# EAGLE library part ATMEGA64 (library maruchan)
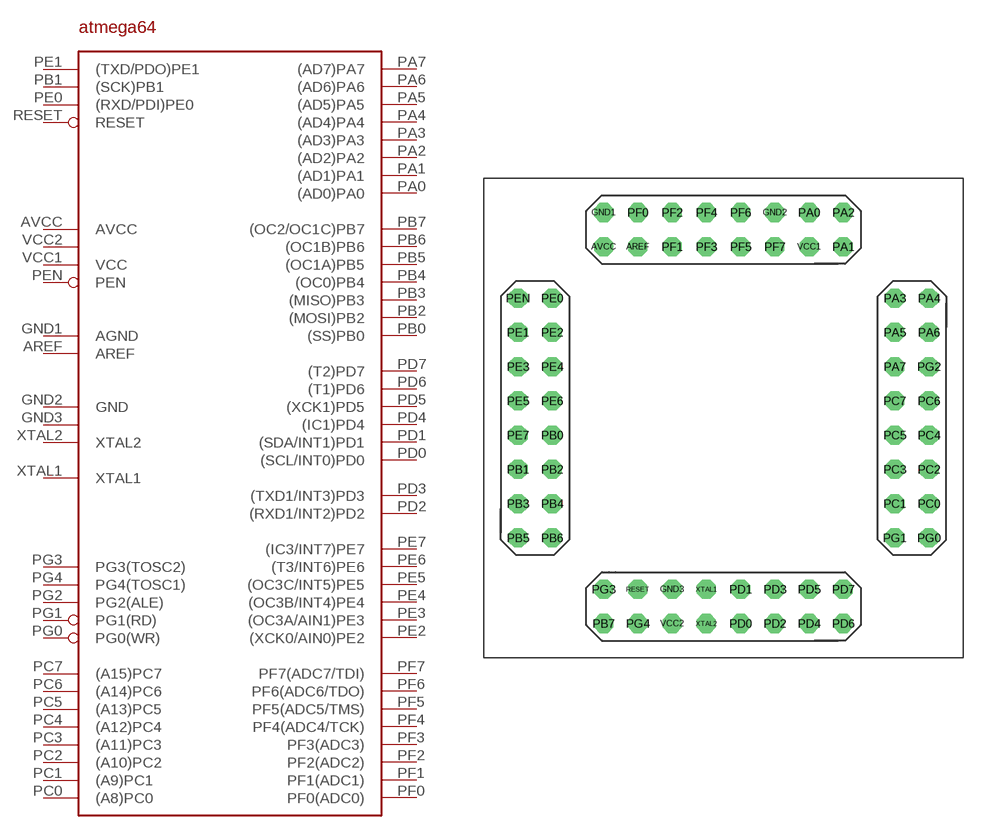
[diagram p0: symbol with the pads of ATMEGA64; footprint ATMEGA64]

Designator prefix ATMEGA64

## ATMEGA64  [ATMEGA64]
AREF  AREF
AVCC  AVCC
GND1  AGND
GND2  GND  pwr
GND3  GND1  pwr
PA0  (AD0)PA0
PA1  (AD1)PA1
PA2  (AD2)PA2
PA3  (AD3)PA3
PA4  (AD4)PA4
PA5  (AD5)PA5
PA6  (AD6)PA6
PA7  (AD7)PA7
PB0  (SS)PB0
PB1  (SCK)PB1
PB2  (MOSI)PB2
PB3  (MISO)PB3
PB4  (OC0)PB4
PB5  (OC1A)PB5
PB6  (OC1B)PB6
PB7  (OC2/OC1C)PB7
PC0  (A8)PC0  out
PC1  (A9)PC1  out
PC2  (A10)PC2  out
PC3  (A11)PC3  out
PC4  (A12)PC4  out
PC5  (A13)PC5  out
PC6  (A14)PC6  out
PC7  (A15)PC7  out
PD0  (SCL/INT0)PD0
PD1  (SDA/INT1)PD1
PD2  (RXD1/INT2)PD2
PD3  (TXD1/INT3)PD3
PD4  (IC1)PD4
PD5  (XCK1)PD5
PD6  (T1)PD6
PD7  (T2)PD7
PE0  (RXD/PDI)PE0
PE1  (TXD/PDO)PE1
PE2  (XCK0/AIN0)PE2
PE3  (OC3A/AIN1)PE3
PE4  (OC3B/INT4)PE4
PE5  (OC3C/INT5)PE5
PE6  (T3/INT6)PE6
PE7  (IC3/INT7)PE7
PEN  PEN  in
PF0  PF0(ADC0)  in
PF1  PF1(ADC1)  in
PF2  PF2(ADC2)  in
PF3  PF3(ADC3)  in
PF4  PF4(ADC4/TCK)  in
PF5  PF5(ADC5/TMS)  in
PF6  PF6(ADC6/TDO)  in
PF7  PF7(ADC7/TDI)  in
PG0  PG0(WR)
PG1  PG1(RD)
PG2  PG2(ALE)
PG3  PG3(TOSC2)
PG4  PG4(TOSC1)
RESET  RESET  in
VCC1  VCC  pwr
VCC2  VCC1  pwr
XTAL1  XTAL1
XTAL2  XTAL2

## Footprint ATMEGA64 (pad centres in mm)
drill 0.914 octagon: AREF -6.35,12.7; AVCC -8.89,12.7; GND1 -8.89,15.24; GND2 3.81,15.24; GND3 -3.81,-12.7; PA0 6.35,15.24; PA1 8.89,12.7; PA2 8.89,15.24; PA3 12.7,8.89; PA4 15.24,8.89; PA5 12.7,6.35; PA6 15.24,6.35; PA7 12.7,3.81; PB0 -12.7,-1.27; PB1 -15.24,-3.81; PB2 -12.7,-3.81; PB3 -15.24,-6.35; PB4 -12.7,-6.35; PB5 -15.24,-8.89; PB6 -12.7,-8.89; PB7 -8.89,-15.24; PC0 15.24,-6.35; PC1 12.7,-6.35; PC2 15.24,-3.81; PC3 12.7,-3.81; PC4 15.24,-1.27; PC5 12.7,-1.27; PC6 15.24,1.27; PC7 12.7,1.27; PD0 1.27,-15.24; PD1 1.27,-12.7; PD2 3.81,-15.24; PD3 3.81,-12.7; PD4 6.35,-15.24; PD5 6.35,-12.7; PD6 8.89,-15.24; PD7 8.89,-12.7; PE0 -12.7,8.89; PE1 -15.24,6.35; PE2 -12.7,6.35; PE3 -15.24,3.81; PE4 -12.7,3.81; PE5 -15.24,1.27; PE6 -12.7,1.27; PE7 -15.24,-1.27; PEN -15.24,8.89; PF0 -6.35,15.24; PF1 -3.81,12.7; PF2 -3.81,15.24; PF3 -1.27,12.7; PF4 -1.27,15.24; PF5 1.27,12.7; PF6 1.27,15.24; PF7 3.81,12.7; PG0 15.24,-8.89; PG1 12.7,-8.89; PG2 15.24,3.81; PG3 -8.89,-12.7; PG4 -6.35,-15.24; RESET -6.35,-12.7; VCC1 6.35,12.7; VCC2 -3.81,-15.24; XTAL1 -1.27,-12.7; XTAL2 -1.27,-15.24